# EAGLE library part AWM633TX (library airwave)
Airwave AWM 633 TX 2.4GHz Audio/Video wireless RF module contains one Transmitter. Using of the most popular 2.4GHz ISM band and designed with high reliability. Airwave RF module is compliance with the criteria of FCC and R&TTE which can transmit/receive a wide band audio & video signals up to 500 feet in open area. Features: Worldwide 2.4GHz ISM band Compact size and low power consumption Highly efficient FM-FM modulation/demodulation scheme Compatible with both NTSC and PAL video formats Integrating Audio/Video input and output into one module base-band PCB No external Audio circuit needed Channel selection is four channel and default value is ch4 (not enable). Other channel can be selected by pulling low to enable.
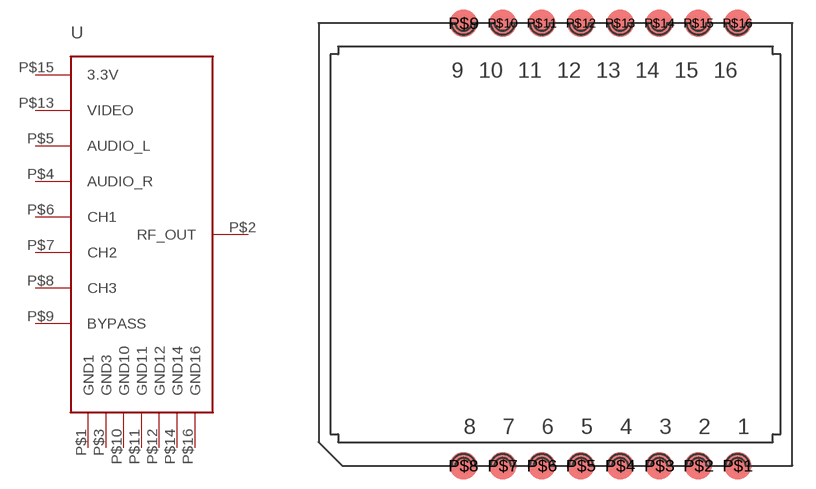
[diagram p2: symbol with the pads of AWM633TX_PACK; footprint AWM633TX_PACK]

Designator prefix -

## AWM633TX  [AWM633TX_PACK]
P$1  GND1  sup
P$2  RF_OUT  out
P$3  GND3  sup
P$4  AUDIO_R  in
P$5  AUDIO_L  in
P$6  CH1
P$7  CH2
P$8  CH3
P$9  BYPASS
P$10  GND10  sup
P$11  GND11  sup
P$12  GND12  sup
P$13  VIDEO  in
P$14  GND14  sup
P$15  3.3V  sup
P$16  GND16  sup

## Footprint AWM633TX_PACK (pad centres in mm)
smd 1.778 x 1.778: P$1 8.89,-14.732; P$2 6.35,-14.732; P$3 3.81,-14.732; P$4 1.27,-14.732; P$5 -1.27,-14.732; P$6 -3.81,-14.732; P$7 -6.35,-14.732; P$8 -8.89,-14.732; P$9 -8.89,13.97; P$10 -6.35,13.97; P$11 -3.81,13.97; P$12 -1.27,13.97; P$13 1.27,13.97; P$14 3.81,13.97; P$15 6.35,13.97; P$16 8.89,13.97